# Altium schematic symbol library LMC6062.SchLib: 1 symbol
Pins are listed as number, name and electrical type; pins without a type are passive.

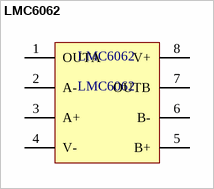
[diagram p0: symbol LMC6062]

## LMC6062
designator LMC6062
footprint LMC6062 (SOP, 8-Leads, Body 5.0x4.0mm (max), Pitch 1.27mm, IPC Medium Density)
pins: 1 OUTA, 2 A-, 3 A+, 4 V-, 5 B+, 6 B-, 7 OUTB, 8 V+